# Altium footprint library SuperMiniCar.PcbLib: 38 footprints (part 2 of 3)
Each footprint in its own frame and in the unit in brackets; x right, y up, seen from the top. Pads: shape width x height; smd on the part's side, far side on the other; paste and mask are expansions set on the pad; w line width, h text height; cw(c..) or ccw(c..) is an arc to the next point about the centre after c.
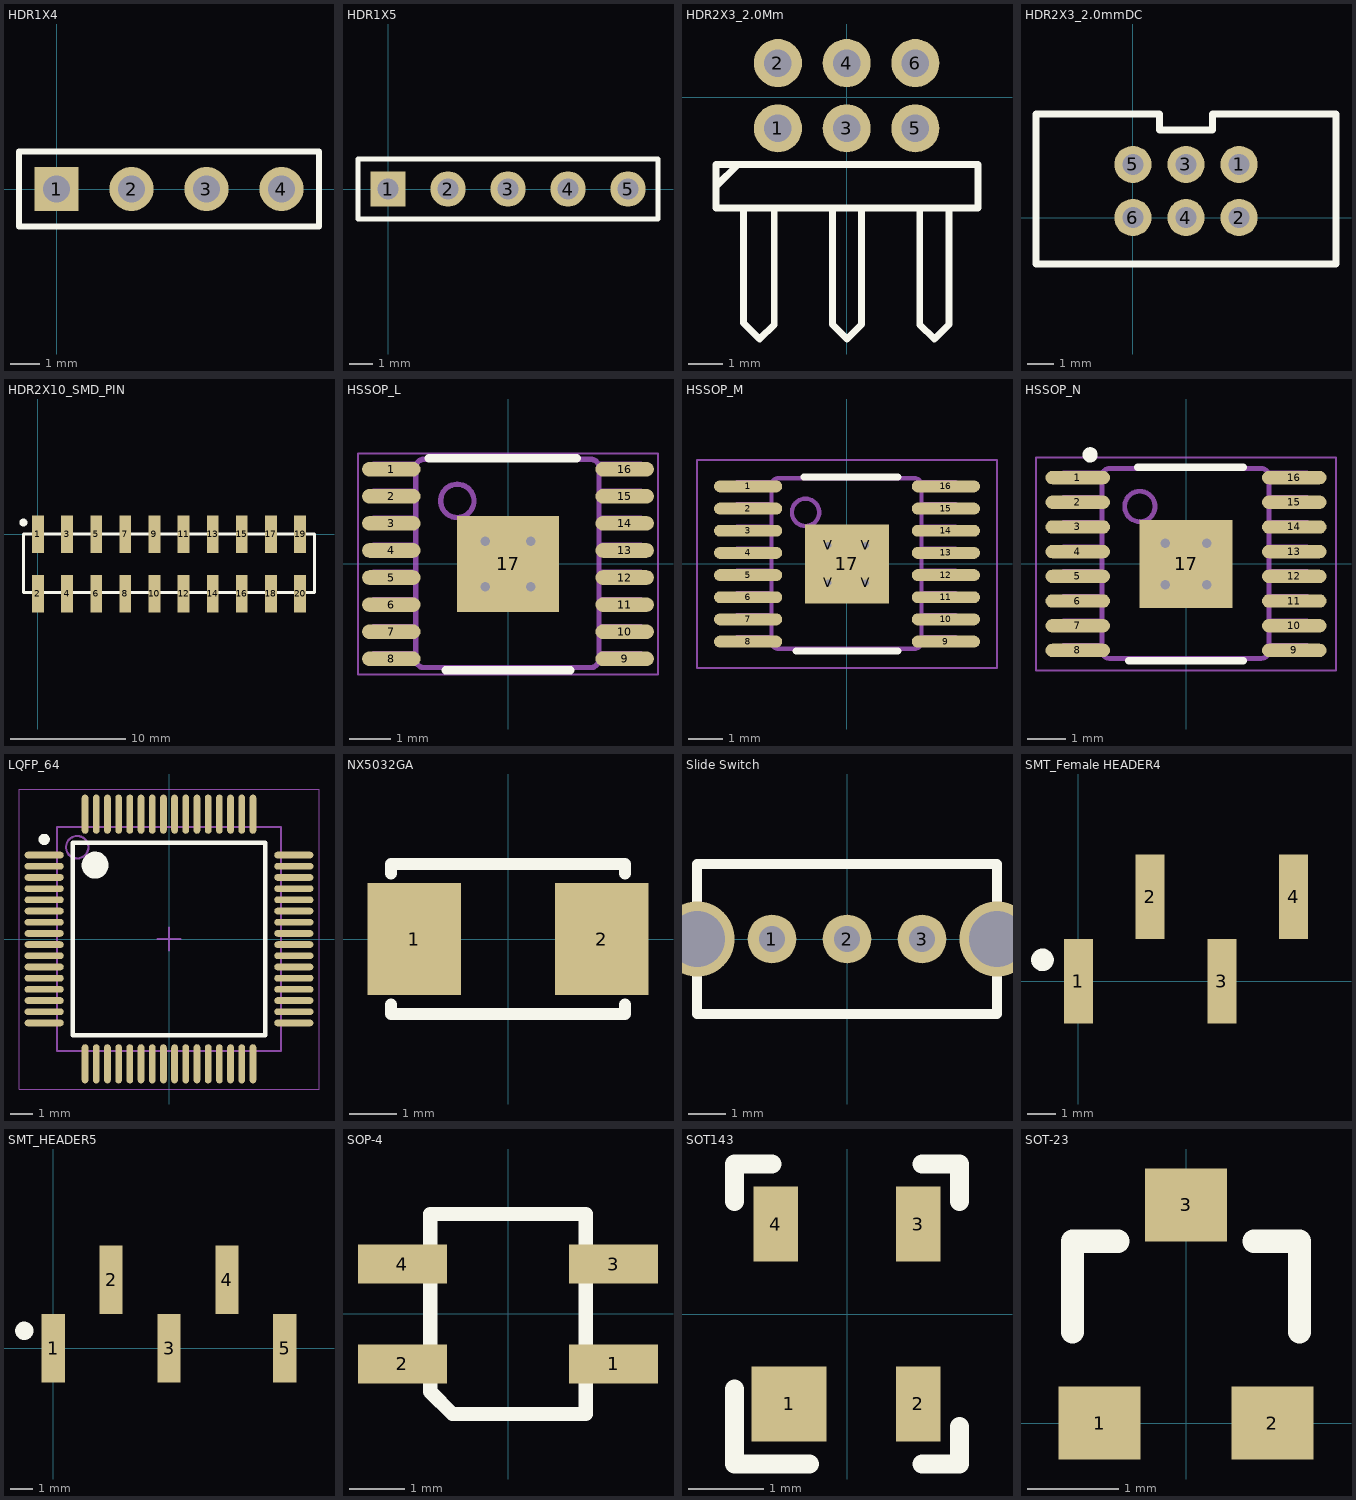
[diagram p1: the footprints below, top view; thin cyan lines are the x and y axes]

## HDR1X4 [mm] "Connector; Header; 4 Position"
pads (4):
  rect 1.5x1.5 hole 0.9: 1(0,0)
  round 1.5 hole 0.9: 2(2.54,0) 3(5.08,0) 4(7.62,0)
Top Overlay:
  lines w0.2: -1.27,-1.27 -1.27,1.27 8.89,1.27 8.89,-1.27 -1.27,-1.27
3D body: height 8.5, standoff -3.2, extent -1.28,-1.275 8.88,1.265

## HDR1X5 [mm] "Connector; Header; 5 Position"
pads (5):
  rect 1.5x1.5 hole 0.9: 1(0,0)
  round 1.5 hole 0.9: 2(2.54,0) 3(5.08,0) 4(7.62,0) 5(10.16,0)
Top Overlay:
  lines w0.2: -1.27,-1.27 11.43,-1.27 11.43,1.27 -1.27,1.27 -1.27,-1.27

## HDR2X3_2.0Mm [mm]
pads (6):
  round 1.4 hole 0.8: 1(-2,-0.9) 2(-2,1) 3(0,-0.9) 4(0,1) 5(2,-0.9) 6(2,1)
Top Overlay:
  lines w0.2: -3.8,-2.585 -3.165,-1.95 ; -3,-3.22 -3,-6.56 -2.53,-7.03 -2.107,-6.607 -2.107,-3.22 ; -0.413,-3.22 -0.413,-6.607 0.01,-7.03 0.433,-6.607 0.433,-3.22 ; 2.127,-3.22 2.127,-6.607 2.55,-7.03 2.973,-6.607 2.973,-3.22 ; -3.8,-3.22 3.82,-3.22 3.82,-1.95 -3.8,-1.95 -3.8,-3.22
3D body: height 4, standoff -3.42, extent -2.95,-10.3 3.05,1.1

## HDR2X3_2.0mmDC [mm]
pads (6):
  round 1.4 hole 0.8: 1(4,2) 2(4,0) 3(2,2) 4(2,0) 5(0,2) 6(0,0)
Top Overlay:
  lines w0.254: -3.65,-1.75 -3.65,3.9 1,3.9 1,3.3 3,3.3 3,3.9 7.65,3.9 7.65,-1.75 -3.65,-1.75
3D body: height 6.5, standoff -3, extent -2.05,-1.575 5.95,3.425

## HDR2X10_SMD_PIN [mm]
pads (20):
  rect 1.02x3.3 smd: 1(0,0) 2(0,-5.2) 3(2.54,0) 4(2.54,-5.2) 5(5.08,0) 6(5.08,-5.2) 7(7.62,0) 8(7.62,-5.2) 9(10.16,0) 10(10.16,-5.2) 11(12.7,0) 12(12.7,-5.2) 13(15.24,0) 14(15.24,-5.2) 15(17.78,0) 16(17.78,-5.2) 17(20.32,0) 18(20.32,-5.2) 19(22.86,0) 20(22.86,-5.2)
Top Overlay:
  circle w0.4: c-1.27,1.016 r0.152
  lines w0.254: -1.27,-5.08 24.13,-5.08 24.13,0 -1.27,0 -1.27,-5.08

## HSSOP_L [mm]
pads (17):
  oval 1.4x0.35 smd paste-0.102 mask+0.051: 1(-2.8,2.275) 2(-2.8,1.625) 3(-2.8,0.975) 4(-2.8,0.325) 5(-2.8,-0.325) 6(-2.8,-0.975) 7(-2.8,-1.625) 8(-2.8,-2.275) 9(2.8,-2.275) 10(2.8,-1.625) 11(2.8,-0.975) 12(2.8,-0.325) 13(2.8,0.325) 14(2.8,0.975) 15(2.8,1.625) 16(2.8,2.275)
  rect 2.46x2.31 smd paste-0.102 mask+0.051: 17(0,0)
via -0.55,-0.55 diameter 0.5 hole 0.23
via -0.55,0.55 diameter 0.5 hole 0.23
via 0.55,-0.55 diameter 0.5 hole 0.23
via 0.55,0.55 diameter 0.5 hole 0.23
Top Overlay:
  lines w0.2: -1.899,2.54 1.651,2.54 ; -1.5,-2.55 1.5,-2.55
Mechanical 13:
  drawing of 202 lines, arcs and shapes, not listed
Mechanical 15:
  lines w0.05: -3.6,-2.65 3.6,-2.65 3.6,2.65 -3.6,2.65 -3.6,-2.65
  lines w0.1: -0.5,0 0.5,0 ; 0,-0.5 0,0.5
3D body: height 1.2, standoff 0, extent -3.225,-2.5 3.175,2.5

## HSSOP_M [mm]
pads (21):
  oval 2x0.35 smd paste-0.102 mask+0.051: 1(-2.9,2.275) 2(-2.9,1.625) 3(-2.9,0.975) 4(-2.9,0.325) 5(-2.9,-0.325) 6(-2.9,-0.975) 7(-2.9,-1.625) 8(-2.9,-2.275) 9(2.9,-2.275) 10(2.9,-1.625) 11(2.9,-0.975) 12(2.9,-0.325) 13(2.9,0.325) 14(2.9,0.975) 15(2.9,1.625) 16(2.9,2.275)
  rect 2.46x2.31 smd paste-0.102 mask+0.051: 17(0,0)
  round 0.5 / inner round 1.524 / far side round 0.5 hole 0.203 mask+0.051: V(-0.55,-0.55) V(-0.55,0.55) V(0.55,-0.55) V(0.55,0.55)
Top Overlay:
  lines w0.2: -1.5,-2.55 1.5,-2.55 ; -1.27,2.55 -0.8,2.55 1.5,2.55
Mechanical 13:
  drawing of 202 lines, arcs and shapes, not listed
Mechanical 15:
  lines w0.05: -4.4,-3.05 -4.4,3.05 4.4,3.05 4.4,-3.05 -4.4,-3.05
  lines w0.1: -0.5,0 0.5,0 ; 0,-0.5 0,0.5
3D body: height 0.25, standoff 0, extent 0,0 0.254,0.254

## HSSOP_N [mm]
pads (17):
  oval 1.7x0.35 smd paste-0.102 mask+0.051: 1(-2.85,2.275) 2(-2.85,1.625) 3(-2.85,0.975) 4(-2.85,0.325) 5(-2.85,-0.325) 6(-2.85,-0.975) 7(-2.85,-1.625) 8(-2.85,-2.275) 9(2.85,-2.275) 10(2.85,-1.625) 11(2.85,-0.975) 12(2.85,-0.325) 13(2.85,0.325) 14(2.85,0.975) 15(2.85,1.625) 16(2.85,2.275)
  rect 2.46x2.31 smd paste-0.102 mask+0.051: 17(0,0)
via 0.55,0.55 diameter 0.508 hole 0.254
via 0.55,-0.55 diameter 0.508 hole 0.254
via -0.55,-0.55 diameter 0.508 hole 0.254
via -0.55,0.55 diameter 0.508 hole 0.254
Top Overlay:
  circle w0.2: c-2.525,2.875 r0.1
  lines w0.2: -1.5,-2.55 1.5,-2.55 ; -1.27,2.55 -0.8,2.55 1.5,2.55
Mechanical 13:
  drawing of 202 lines, arcs and shapes, not listed
Mechanical 15:
  lines w0.05: -3.95,-2.8 -3.95,2.8 3.95,2.8 3.95,-2.8 -3.95,-2.8
  lines w0.1: -0.5,0 0.5,0 ; 0,-0.5 0,0.5
3D body: height 0.25, standoff 0, extent 0,0 0.254,0.254
3D body: height 1.2, standoff 0, extent -3.2,-2.5 3.2,2.5

## LQFP_64 [mm]
pads (64):
  oval 1.75x0.3 smd: 1(-5.575,3.75) 2(-5.575,3.25) 3(-5.575,2.75) 4(-5.575,2.25) 5(-5.575,1.75) 6(-5.575,1.25) 7(-5.575,0.75) 8(-5.575,0.25) 9(-5.575,-0.25) 10(-5.575,-0.75) 11(-5.575,-1.25) 12(-5.575,-1.75) 13(-5.575,-2.25) 14(-5.575,-2.75) 15(-5.575,-3.25) 16(-5.575,-3.75) 33(5.575,-3.75) 34(5.575,-3.25) 35(5.575,-2.75) 36(5.575,-2.25) 37(5.575,-1.75) 38(5.575,-1.25) 39(5.575,-0.75) 40(5.575,-0.25) 41(5.575,0.25) 42(5.575,0.75) 43(5.575,1.25) 44(5.575,1.75) 45(5.575,2.25) 46(5.575,2.75) 47(5.575,3.25) 48(5.575,3.75)
  oval 0.3x1.75 smd: 17(-3.75,-5.575) 18(-3.25,-5.575) 19(-2.75,-5.575) 20(-2.25,-5.575) 21(-1.75,-5.575) 22(-1.25,-5.575) 23(-0.75,-5.575) 24(-0.25,-5.575) 25(0.25,-5.575) 26(0.75,-5.575) 27(1.25,-5.575) 28(1.75,-5.575) 29(2.25,-5.575) 30(2.75,-5.575) 31(3.25,-5.575) 32(3.75,-5.575) 49(3.75,5.575) 50(3.25,5.575) 51(2.75,5.575) 52(2.25,5.575) 53(1.75,5.575) 54(1.25,5.575) 55(0.75,5.575) 56(0.25,5.575) 57(-0.25,5.575) 58(-0.75,5.575) 59(-1.25,5.575) 60(-1.75,5.575) 61(-2.25,5.575) 62(-2.75,5.575) 63(-3.25,5.575) 64(-3.75,5.575)
Top Overlay:
  circle w0.25: c-5.575,4.45 r0.125
  circle w0.6: c-3.3,3.3 r0.3
  lines w0.2: -4.3,-4.3 -4.3,4.3 4.3,4.3 4.3,-4.3 -4.3,-4.3
Mechanical 13:
  circle w0.1: c-4.1,4.1 r0.5
  lines w0.1: -5,-5 -5,5 5,5 5,-5 -5,-5
Mechanical 15:
  lines w0.05: -6.7,-6.7 -6.7,6.7 6.7,6.7 6.7,-6.7 -6.7,-6.7
  lines w0.1: -0.5,0 0.5,0 ; 0,-0.5 0,0.5
3D body: height 1.62, standoff -0.01, extent -6.072,-6.082 6.072,6.061

## NX5032GA [mm] "贴片晶振，5mm x 3.2mm"
pads (2):
  rect 2x2.4 smd: 1(-2,0) 2(2,0)
Top Overlay:
  lines w0.254: -2.5,-1.4 -2.5,-1.6 -2,-1.6 2,-1.6 2.5,-1.6 2.5,-1.4 ; -2.5,1.4 -2.5,1.6 -2,1.6 2,1.6 2.5,1.6 2.5,1.4
3D body: height 1.3, standoff 0, extent -2.5,-1.6 2.5,1.6

## Slide Switch [mm]
pads (3):
  round 1.3 hole 0.7: 1(-2,0) 2(0,0) 3(2,0)
via -4,0 diameter 2 hole 1.5
via 4,0 diameter 2 hole 1.5
Top Overlay:
  lines w0.254: -4,-2 4,-2 4,2 -4,2 -4,-2
3D body: height 6.5, standoff -5, extent -4.25,-1.9 4.25,1.8

## SMT_Female HEADER4 [mm]
pads (4):
  rect 1.02x3 smd: 1(0,0) 2(2.54,3) 3(5.08,0) 4(7.62,3)
Top Overlay:
  circle w0.4: c-1.27,0.762 r0.2
3D body: height 8.5, standoff -3.2, extent -1.23,0.325 8.93,2.865

## SMT_HEADER5 [mm]
pads (5):
  rect 1.02x3 smd: 1(0,0) 2(2.54,3) 3(5.08,0) 4(7.62,3) 5(10.16,0)
Top Overlay:
  circle w0.4: c-1.27,0.762 r0.2
3D body: height 10.2, standoff -0.02, extent -1.275,-0.89 11.425,4.19

## SOP-4 [mm]
pads (4):
  rect 1.6x0.7 smd: 1(1.9,-0.9) 2(-1.9,-0.9) 3(1.9,0.9) 4(-1.9,0.9)
Top Overlay:
  lines w0.254: -1.4,-1.4 -1.4,1.8 1.4,1.8 1.4,-1.8 -1,-1.8 -1.4,-1.4

## SOT143 [mm]
pads (4):
  rect 1x1 smd: 1(-0.77,-1.2)
  rect 0.6x1 smd: 2(0.95,-1.2) 3(0.95,1.2) 4(-0.95,1.2)
Top Overlay:
  lines w0.254: -1.5,-1 -1.5,-2 -0.5,-2 ; -1.5,1.5 -1.5,2 -1,2 ; 1,-2 1.5,-2 1.5,-1.5 ; 1,2 1.5,2 1.5,1.5
3D body: height 1, standoff 0, extent -1.46,-1.21 1.46,1.21

## SOT-23 [mm]
pads (3):
  rect 0.9x0.8 smd: 1(-0.95,0) 2(0.95,0) 3(0,2.4)
Top Overlay:
  lines w0.254: -1.25,1 -1.25,2 -0.75,2 ; 0.75,2 1.25,2 1.25,1
3D body: height 1.3, standoff 0, extent -1.45,-0.15 1.45,2.65